# EAGLE library part XRA1403I? (library kiks-ic)
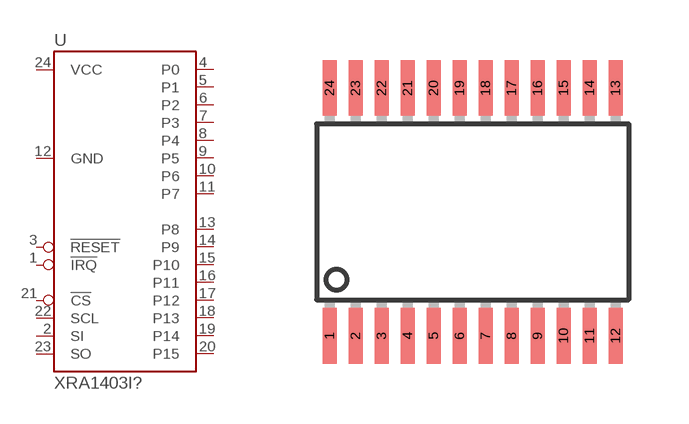
[diagram p9: symbol with the pads of TSSOP24; footprint TSSOP24]

Designator prefix U

## XRA1403IG24  [TSSOP24]
1  !IRQ  out
2  SI  in
3  !RESET  in
4  P0
5  P1
6  P2
7  P3
8  P4
9  P5
10  P6
11  P7
12  GND  in
13  P8
14  P9
15  P10
16  P11
17  P12
18  P13
19  P14
20  P15
21  !CS  in
22  SCL  in
23  SO  out
24  VCC  in

## Footprint TSSOP24 (pad centres in mm)
smd 0.35 x 1.4: 1 -3.575,-3.1; 2 -2.925,-3.1; 3 -2.275,-3.1; 4 -1.625,-3.1; 5 -0.975,-3.1; 6 -0.325,-3.1; 7 0.325,-3.1; 8 0.975,-3.1; 9 1.625,-3.1; 10 2.275,-3.1; 11 2.925,-3.1; 12 3.575,-3.1; 13 3.575,3.1; 14 2.925,3.1; 15 2.275,3.1; 16 1.625,3.1; 17 0.975,3.1; 18 0.325,3.1; 19 -0.325,3.1; 20 -0.975,3.1; 21 -1.625,3.1; 22 -2.275,3.1; 23 -2.925,3.1; 24 -3.575,3.1